# Altium footprint library AudioAmp.PcbLib: 21 footprints (part 1 of 2)
Each footprint in its own frame and in the unit in brackets; x right, y up, seen from the top. Pads: shape width x height; smd on the part's side, far side on the other; paste and mask are expansions set on the pad; w line width, h text height; cw(c..) or ccw(c..) is an arc to the next point about the centre after c.
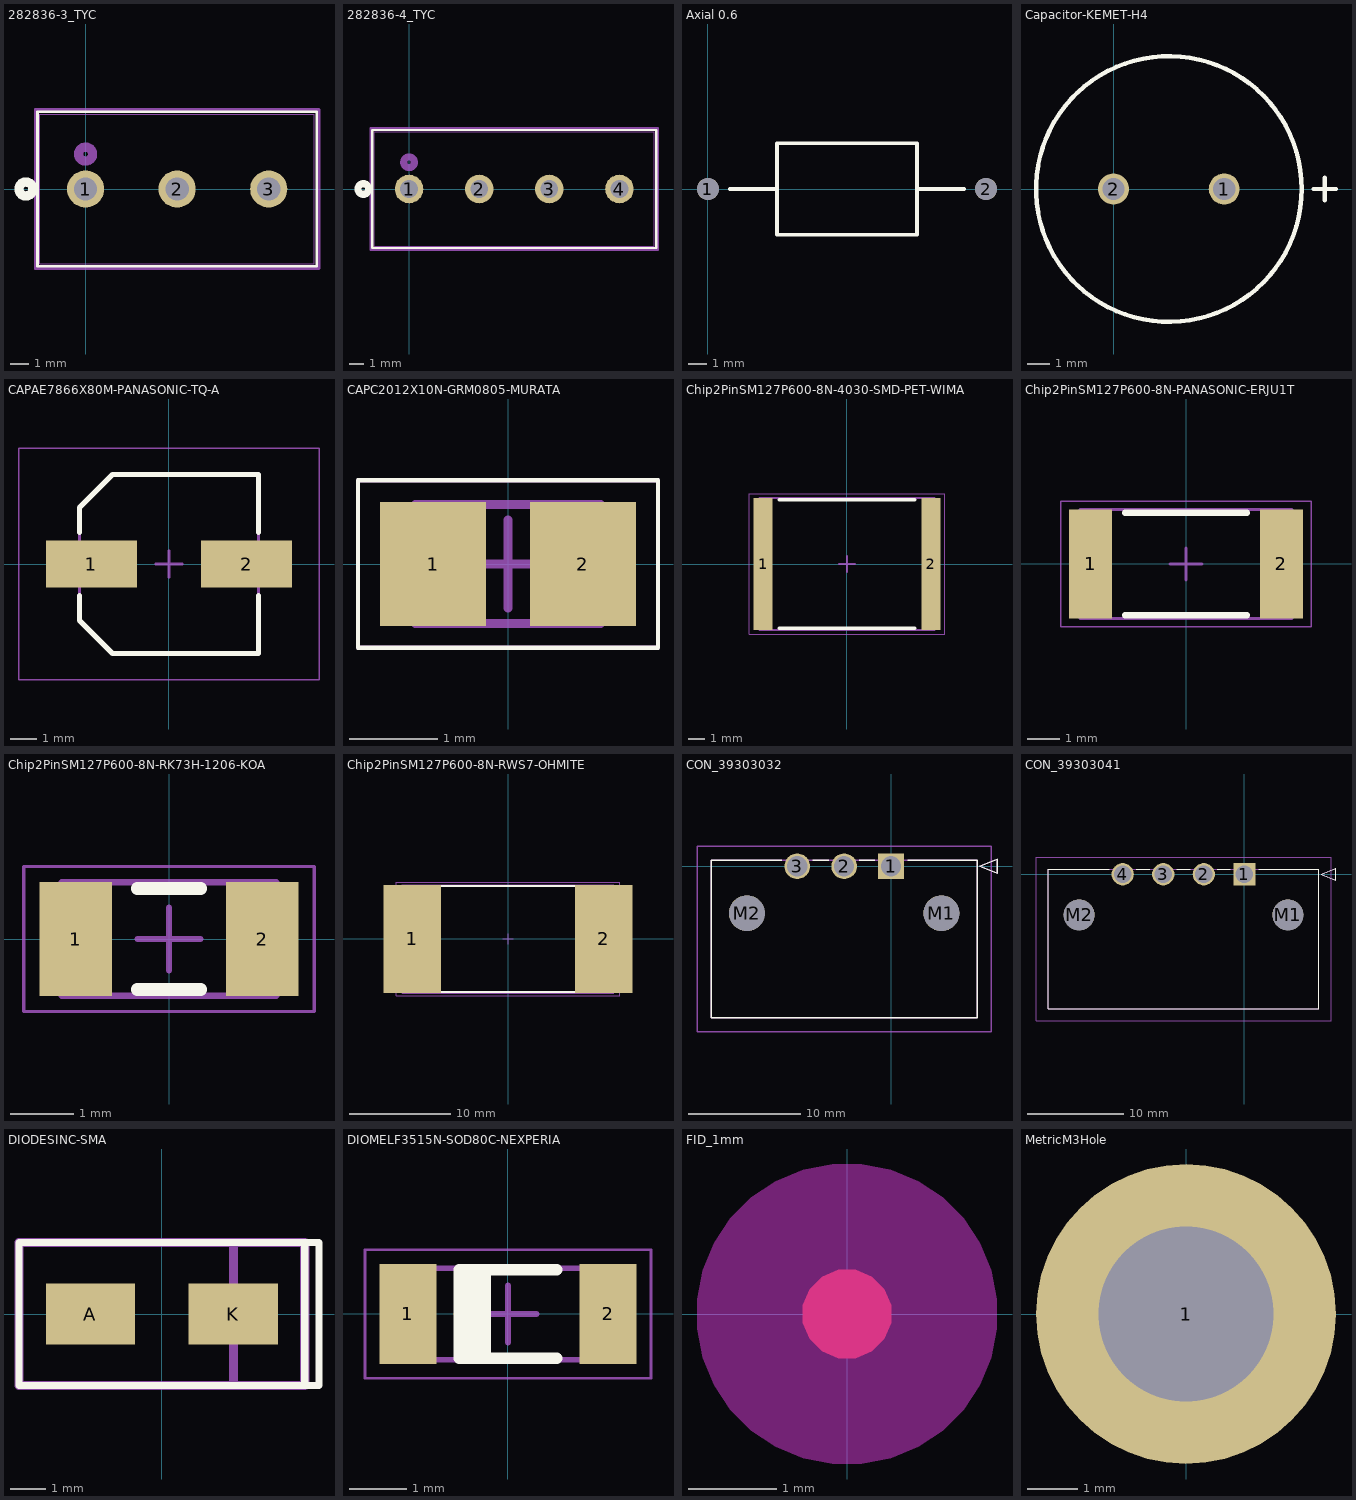
[diagram p0: the footprints below, top view; thin cyan lines are the x and y axes]

## 282836-3_TYC [mil]
pads (3):
  round 80 hole 50 mask+0: 1(0,0) 2(196.85,0) 3(393.7,0)
Top Overlay:
  circle w20: c-128.15,0 r15
  lines w6: -103.15,-166 -103.15,166 496.85,166 496.85,-166 -103.15,-166
Bottom Overlay:
  circle w20: c-128.15,0 r15
Mechanical 13:
  circle w20: c0,75 r15
  lines w1: -98.15,-161 -98.15,161 491.85,161 491.85,-161 -98.15,-161
Mechanical 15:
  lines w6: -108.15,-171 501.85,-171 501.85,171 -108.15,171 -108.15,-171

## 282836-4_TYC [mil]
pads (4):
  round 80 hole 50 mask+0: 1(0,0) 2(196.85,0) 3(393.7,0) 4(590.55,0)
Top Overlay:
  circle w20: c-128.22,0 r15
  lines w6: -103.22,-166 -103.22,166 693.78,166 693.78,-166 -103.22,-166
Bottom Overlay:
  circle w20: c-128.22,0 r15
Mechanical 13:
  circle w20: c0,75 r15
  lines w1: -98.22,-161 -98.22,161 688.78,161 688.78,-161 -98.22,-161
Mechanical 15:
  lines w6: -108.22,-171 698.78,-171 698.78,171 -108.22,171 -108.22,-171
3D body "c-282836-4-j-3d.stp": height 393.7, standoff -137.8, extent -133.86,-161.42 677.16,161.42
3D body: height 10, standoff 0, extent 0,0 10,10

## Axial 0.6 [mm]
pads (2):
  round 1.2 hole 1.2: 1(0,0) 2(15.2,0)
Top Overlay:
  lines w0.2: 1.2,0 3.775,0 ; 11.425,0 14,0 ; 3.775,0 3.775,-2.5 11.425,-2.5 11.425,2.5 3.775,2.5 3.775,0

## Capacitor-KEMET-H4 [mm]
pads (2):
  round 1.4 hole 1: 1(5,0) 2(0,0)
Top Overlay:
  circle w0.2: c2.5,0 r6
  lines w0.2: 9.032,0 10.048,0 ; 9.54,-0.508 9.54,0.508
3D body "ESH227M063AH4AA.step": height 23, standoff -19, extent -2.75,-5.25 7.75,5.25

## CAPAE7866X80M-PANASONIC-TQ-A [mm] "Aluminum Electrolytic Capacitor, Body 6.60x6.60x8.00mm, IPC Low Density"
height 8
pads (2):
  rect 3.45x1.8 smd: 1(-2.95,0) 2(2.95,0)
Top Overlay:
  lines w0.2: -3.4,-1.2 -3.4,-2.15 -2.15,-3.4 3.4,-3.4 3.4,-1.2 ; -3.4,1.2 -3.4,2.15 -2.15,3.4 3.4,3.4 3.4,1.2
Top Assembly:
  lines w0.1: -3.4,-2.15 -3.4,2.15 -2.15,3.4 3.4,3.4 3.4,-3.4 -2.15,-3.4 -3.4,-2.15
Top Courtyard:
  lines w0.05: -5.7,-4.4 5.7,-4.4 5.7,4.4 -5.7,4.4 -5.7,-4.4
  lines w0.1: -0.5,0 0.5,0 ; 0,-0.5 0,0.5
3D body "CAPAE7866X80M-PANASONIC-TQ-A.step": height 8, standoff 0, extent -3.9,-3.4 3.9,3.4

## CAPC2012X10N-GRM0805-MURATA [mm] "Chip Capacitor, 2-Leads, Body 2.00x1.25mm, IPC Medium Density"
height 0.95
pads (2):
  rect 1.2x1.4 smd: 1(-0.85,0) 2(0.85,0)
Top Overlay:
  lines w0.05: -1.7,-0.95 1.7,-0.95 1.7,0.95 -1.7,0.95 -1.7,-0.95
Top Assembly:
  lines w0.1: -1.05,-0.675 -1.05,0.675 1.05,0.675 1.05,-0.675 -1.05,-0.675
Top Courtyard:
  lines w0.05: -1.7,-0.95 -1.7,0.95 1.7,0.95 1.7,-0.95 -1.7,-0.95
  lines w0.1: -0.5,0 0.5,0 ; 0,-0.5 0,0.5
3D body "CAPC2012X10N-GRM0805-MURATA.step": height 0.95, standoff 0, extent -1.05,-0.675 1.05,0.675

## Chip2PinSM127P600-8N-4030-SMD-PET-WIMA [mm]
height 5.3
pads (2):
  rect 1.15x7.9 smd: 1(-5.025,0) 2(5.025,0)
Top Overlay:
  lines w0.2: -4.05,-3.85 4.05,-3.85 ; -4.05,3.85 4.05,3.85
Top Assembly:
  lines w0.1: -5.25,-3.95 -5.25,3.95 5.25,3.95 5.25,-3.95 -5.25,-3.95
Top Courtyard:
  lines w0.05: -5.85,-4.2 -5.85,4.2 5.85,4.2 5.85,-4.2 -5.85,-4.2
  lines w0.1: -0.5,0 0.5,0 ; 0,-0.5 0,0.5
3D body "Chip2PinSM127P600-8N-4030-SMD-PET-WIMA.step": height 5.3, standoff 0, extent -5.25,-3.95 5.25,3.95

## Chip2PinSM127P600-8N-PANASONIC-ERJU1T [mm]
height 0.7
pads (2):
  rect 1.35x3.4 smd: 1(-2.975,0) 2(2.975,0)
Top Overlay:
  lines w0.2: -1.9,-1.6 1.9,-1.6 ; -1.9,1.6 1.9,1.6
Top Assembly:
  lines w0.1: -3.3,-1.7 3.3,-1.7 3.3,1.7 -3.3,1.7 -3.3,-1.7
Top Courtyard:
  lines w0.05: -3.9,-1.95 3.9,-1.95 3.9,1.95 -3.9,1.95 -3.9,-1.95
  lines w0.1: -0.5,0 0.5,0 ; 0,-0.5 0,0.5
3D body "Chip2PinSM127P600-8N-PANASONIC-ERJU1T.step": height 0.7, standoff 0, extent -3.3,-1.7 3.3,1.7

## Chip2PinSM127P600-8N-RK73H-1206-KOA [mm]
height 0.7
pads (2):
  rect 1.15x1.8 smd: 1(-1.475,0) 2(1.475,0)
Top Overlay:
  lines w0.2: -0.5,-0.8 0.5,-0.8 ; -0.5,0.8 0.5,0.8
Top Assembly:
  lines w0.1: -1.7,-0.9 -1.7,0.9 1.7,0.9 1.7,-0.9 -1.7,-0.9
Top Courtyard:
  lines w0.05: -2.3,-1.15 -2.3,1.15 2.3,1.15 2.3,-1.15 -2.3,-1.15
  lines w0.1: -0.5,0 0.5,0 ; 0,-0.5 0,0.5
3D body "Chip2PinSM127P600-8N-RK73H-1206-KOA.step": height 0.7, standoff 0, extent -1.7,-0.9 1.7,0.9

## Chip2PinSM127P600-8N-RWS7-OHMITE [mm]
height 10.7
pads (2):
  rect 5.7x10.7 smd: 1(-9.475,0) 2(9.475,0)
Top Overlay:
  lines w0.2: -7.75,-5.25 7.75,-5.25 ; -7.75,5.25 7.75,5.25
Top Assembly:
  lines w0.1: -10.45,-5.35 -10.45,5.35 10.45,5.35 10.45,-5.35 -10.45,-5.35
Top Courtyard:
  lines w0.05: -11.05,-5.6 -11.05,5.6 11.05,5.6 11.05,-5.6 -11.05,-5.6
  lines w0.1: -0.5,0 0.5,0 ; 0,-0.5 0,0.5
3D body "Chip2PinSM127P600-8N-RWS7-OHMITE.step": height 10.7, standoff 0, extent -10.45,-5.35 10.45,5.35

## CON_39303032 [mm]
pads (5):
  rect 2.3x2.3 hole 1.8 mask+0.076: 1(0,0)
  round 2.3 hole 1.8 mask+0.076: 2(-4.2,0) 3(-8.4,0)
  round 3.2 hole 3.2 unplated mask+0.076: M1(4.5,-4.2) M2(-12.9,-4.2)
Top Overlay:
  lines w0.127: -9.769,0.535 -16.1,0.535 -16.1,-13.55 7.7,-13.55 7.7,0.535 1.47,0.535 ; -7.031,0.535 -5.569,0.535 ; -2.831,0.535 -1.47,0.535 ; 7.954,0 9.478,0.635 9.478,-0.635 7.954,0
Mechanical 13:
  lines w0.127: -16.1,-13.55 7.7,-13.55 7.7,0.535 -16.1,0.535 -16.1,-13.55 ; 7.954,0 9.478,0.635 9.478,-0.635 7.954,0
Mechanical 15:
  lines w0.127: -17.37,-14.82 -17.37,1.805 8.97,1.805 8.97,-14.82 -17.37,-14.82
3D body "39303032.stp": height 7.2, standoff -3.5, extent -16.1,-13.5 7.7,0.585
3D body: height 0.25, standoff 0, extent 0,0 0.254,0.254

## CON_39303041 [mm]
pads (6):
  rect 2.3x2.3 hole 1.8 mask+0.076: 1(0,0)
  round 2.3 hole 1.8 mask+0.076: 2(-4.2,0) 3(-8.4,0) 4(-12.6,0)
  round 3.2 hole 3.2 unplated mask+0.076: M1(4.5,-4.2) M2(-17.1,-4.2)
Top Overlay:
  lines w0.127: -13.982,0.5 -20.3,0.5 -20.3,-13.9 7.7,-13.9 7.7,0.5 1.47,0.5 ; -11.218,0.5 -9.782,0.5 ; -7.018,0.5 -5.582,0.5 ; -2.818,0.5 -1.47,0.5 ; 7.954,0 9.478,-0.635 9.478,0.635 7.954,0
Mechanical 13:
  lines w0.127: -20.3,-13.9 -20.3,0.5 7.7,0.5 7.7,-13.9 -20.3,-13.9 ; 7.954,0 9.478,-0.635 9.478,0.635 7.954,0
Mechanical 15:
  lines w0.127: -21.57,-15.17 8.97,-15.17 8.97,1.77 -21.57,1.77 -21.57,-15.17
3D body: height 0.25, standoff 0, extent 0,0 0.254,0.254
3D body "39303041.stp": height 7.2, standoff -3.5, extent -20.3,-13.9 7.7,0.5

## DIODESINC-SMA [mm]
pads (2):
  rect 2.5x1.7 smd: A(-2,0) K(2,0)
Top Overlay:
  lines w0.2: 4,-2 4,2 ; -4,-2 4.4,-2 4.4,2 -4,2 -4,-0.9 -4,-2
Top Assembly:
  lines w0.254: 2,-2 2,2 ; -4,-2 4,-2 4,2 -4,2 -4,-2

## DIOMELF3515N-SOD80C-NEXPERIA [mm] "MELF Diode, 2-Leads, Body 3.50x1.53mm, IPC Medium Density"
height 1.6
pads (2):
  rect 1x1.75 smd: 1(-1.75,0) 2(1.75,0)
Top Overlay:
  rectangle: -0.85,-0.775 -0.3,0.775
  lines w0.2: 0.85,-0.775 -0.85,-0.775 -0.85,0.775 0.85,0.775
Top Assembly:
  lines w0.1: -1.85,-0.8 -1.85,0.8 1.85,0.8 1.85,-0.8 -1.85,-0.8
Top Courtyard:
  lines w0.05: -2.5,-1.125 -2.5,1.125 2.5,1.125 2.5,-1.125 -2.5,-1.125
  lines w0.1: -0.5,0 0.5,0 ; 0,-0.5 0,0.5
3D body "DIOMELF3515N-SOD80C-NEXPERIA.step": height 1.53, standoff 0.01, extent -1.75,-0.761 1.75,0.761

## FID_1mm [mm]
Top Layer:
  region: -0.5,0 -0.5,-0.099 -0.424,-0.283 -0.283,-0.424 -0.099,-0.5 0,-0.5 0.099,-0.5 0.283,-0.424 0.424,-0.283 0.5,-0.099 0.5,0 0.5,0.099 0.424,0.283 0.283,0.424 0.099,0.5 0,0.5 -0.099,0.5 -0.283,0.424 -0.424,0.283 -0.5,0.099
Top Layer keep-out:
  region: 0,-1.7 -0.167,-1.7 -0.496,-1.635 -0.805,-1.507 -1.084,-1.32 -1.32,-1.084 -1.507,-0.805 -1.635,-0.496 -1.7,-0.167 -1.7,0 -1.7,0.167 -1.635,0.496 -1.507,0.805 -1.32,1.084 -1.084,1.32 -0.805,1.507 -0.496,1.635 -0.167,1.7 0,1.7 0.167,1.7 0.496,1.635 0.805,1.507 1.084,1.32 1.32,1.084 1.507,0.805 1.635,0.496 1.7,0.167 1.7,0 1.7,-0.167 1.635,-0.496 1.507,-0.805 1.32,-1.084 1.084,-1.32 0.805,-1.507 0.496,-1.635 0.167,-1.7
Top Solder:
  region: -1.5,0 -1.5,-0.148 -1.442,-0.438 -1.329,-0.711 -1.165,-0.956 -0.956,-1.165 -0.711,-1.329 -0.438,-1.442 -0.148,-1.5 0,-1.5 0.148,-1.5 0.438,-1.442 0.711,-1.329 0.956,-1.165 1.165,-0.956 1.329,-0.711 1.442,-0.438 1.5,-0.148 1.5,0 1.5,0.148 1.442,0.438 1.329,0.711 1.165,0.956 0.956,1.165 0.711,1.329 0.438,1.442 0.148,1.5 0,1.5 -0.148,1.5 -0.438,1.442 -0.711,1.329 -0.956,1.165 -1.165,0.956 -1.329,0.711 -1.442,0.438 -1.5,0.148
3D body: height 1.27, standoff 0, extent -1.7,-1.7 1.7,1.7

## MetricM3Hole [mm]
pads (1):
  round 6 hole 3.5: 1(0,0)